# Altium footprint library TVS0500DRVR.PcbLib: 2 footprints
Each footprint in its own frame and in the unit in brackets; x right, y up, seen from the top. Pads: shape width x height; smd on the part's side, far side on the other; paste and mask are expansions set on the pad; w line width, h text height; cw(c..) or ccw(c..) is an arc to the next point about the centre after c.
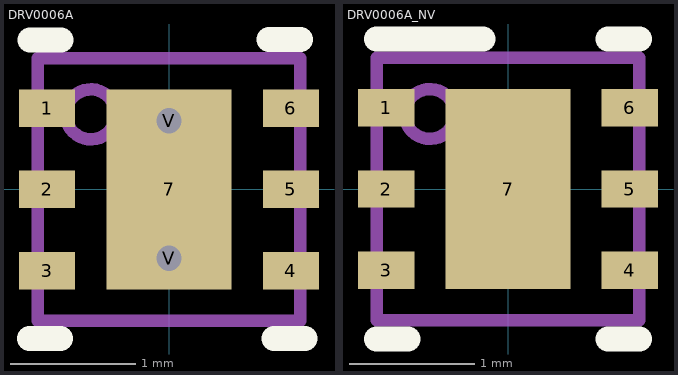
[diagram p0: the footprints below, top view; thin cyan lines are the x and y axes]

## DRV0006A [mm]
pads (9):
  rect 0.45x0.3 smd paste+0 mask+0.051: 1(-0.975,0.65) 2(-0.975,0) 3(-0.975,-0.65) 4(0.975,-0.65) 5(0.975,0) 6(0.975,0.65)
  rect 1x1.6 smd paste-0.5 mask+0.051: 7(0,0)
  round 0.5 / inner round 1.524 / far side round 0.5 hole 0.203 paste-2539.97 mask+0.051: V(0,-0.55) V(0,0.55)
Top Overlay:
  lines w0.2: -1.118,-1.194 -0.868,-1.194 ; -1.114,1.194 -0.864,1.194 ; 0.8,1.2 1.05,1.2 ; 0.838,-1.194 1.088,-1.194
Top Paste:
  region: -0.499,0.139 -0.5,0.149 -0.5,0.751 -0.499,0.761 -0.496,0.77 -0.492,0.778 -0.486,0.786 -0.478,0.792 -0.47,0.796 -0.461,0.799 -0.451,0.8 0.451,0.8 0.461,0.799 0.47,0.796 0.478,0.792 0.486,0.786 0.492,0.778 0.496,0.77 0.499,0.761 0.5,0.751 0.5,0.149 0.499,0.139 0.496,0.13 0.492,0.122 0.486,0.114 0.478,0.108 0.47,0.104 0.461,0.101 0.451,0.1 -0.451,0.1 -0.461,0.101 -0.47,0.104 -0.478,0.108 -0.486,0.114 -0.492,0.122 -0.496,0.13
  region: -0.499,-0.761 -0.5,-0.751 -0.5,-0.149 -0.499,-0.139 -0.496,-0.13 -0.492,-0.122 -0.486,-0.114 -0.478,-0.108 -0.47,-0.104 -0.461,-0.101 -0.451,-0.1 0.451,-0.1 0.461,-0.101 0.47,-0.104 0.478,-0.108 0.486,-0.114 0.492,-0.122 0.496,-0.13 0.499,-0.139 0.5,-0.149 0.5,-0.751 0.499,-0.761 0.496,-0.77 0.492,-0.778 0.486,-0.786 0.478,-0.792 0.47,-0.796 0.461,-0.799 0.451,-0.8 -0.451,-0.8 -0.461,-0.799 -0.47,-0.796 -0.478,-0.792 -0.486,-0.786 -0.492,-0.778 -0.496,-0.77
Mechanical 13:
  circle w0.1: c-0.625,0.6 r0.2
  lines w0.1: -1.05,-1.05 -1.05,1.05 1.05,1.05 1.05,-1.05 -1.05,-1.05

## DRV0006A_NV [mm]
pads (7):
  rect 0.45x0.3 smd paste+0 mask+0.051: 1(-0.975,0.65) 2(-0.975,0) 3(-0.975,-0.65) 4(0.975,-0.65) 5(0.975,0) 6(0.975,0.65)
  rect 1x1.6 smd paste-0.5 mask+0.051: 7(0,0)
Top Overlay:
  lines w0.2: -1.05,-1.2 -0.8,-1.2 ; -1.05,1.2 -0.2,1.2 ; 0.8,-1.2 1.05,-1.2 ; 0.8,1.2 1.05,1.2
Top Paste:
  region: -0.499,-0.761 -0.5,-0.751 -0.5,-0.149 -0.499,-0.139 -0.496,-0.13 -0.492,-0.122 -0.486,-0.114 -0.478,-0.108 -0.47,-0.104 -0.461,-0.101 -0.451,-0.1 0.451,-0.1 0.461,-0.101 0.47,-0.104 0.478,-0.108 0.486,-0.114 0.492,-0.122 0.496,-0.13 0.499,-0.139 0.5,-0.149 0.5,-0.751 0.499,-0.761 0.496,-0.77 0.492,-0.778 0.486,-0.786 0.478,-0.792 0.47,-0.796 0.461,-0.799 0.451,-0.8 -0.451,-0.8 -0.461,-0.799 -0.47,-0.796 -0.478,-0.792 -0.486,-0.786 -0.492,-0.778 -0.496,-0.77
  region: -0.499,0.139 -0.5,0.149 -0.5,0.751 -0.499,0.761 -0.496,0.77 -0.492,0.778 -0.486,0.786 -0.478,0.792 -0.47,0.796 -0.461,0.799 -0.451,0.8 0.451,0.8 0.461,0.799 0.47,0.796 0.478,0.792 0.486,0.786 0.492,0.778 0.496,0.77 0.499,0.761 0.5,0.751 0.5,0.149 0.499,0.139 0.496,0.13 0.492,0.122 0.486,0.114 0.478,0.108 0.47,0.104 0.461,0.101 0.451,0.1 -0.451,0.1 -0.461,0.101 -0.47,0.104 -0.478,0.108 -0.486,0.114 -0.492,0.122 -0.496,0.13
Mechanical 13:
  circle w0.1: c-0.625,0.6 r0.2
  lines w0.1: -1.05,-1.05 1.05,-1.05 1.05,1.05 -1.05,1.05 -1.05,-1.05
3D body "DRV0006A.stp": height 0.8, standoff 0, extent -1,-1 1,1